# Altium footprint library CrystalsFootprint.PcbLib: 1 footprints
Each footprint in its own frame and in the unit in brackets; x right, y up, seen from the top. Pads: shape width x height; smd on the part's side, far side on the other; paste and mask are expansions set on the pad; w line width, h text height; cw(c..) or ccw(c..) is an arc to the next point about the centre after c.
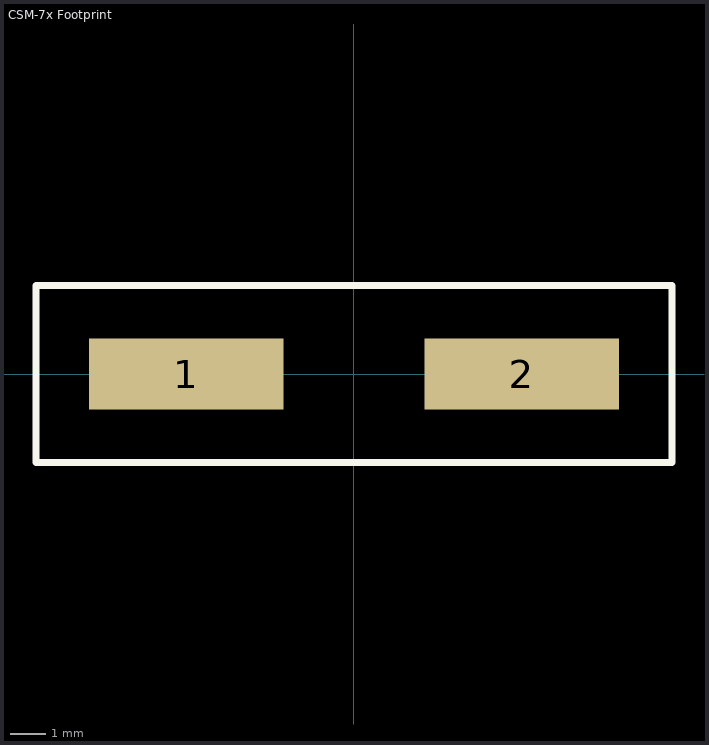
[diagram p0: the footprint, top view; thin cyan lines are the x and y axes]

## CSM-7x Footprint [mm] "for   ECS-080-20-5PX-TR"
height 4.3
pads (2):
  rect 5.5x2 smd: 1(-4.75,0) 2(4.75,0)
Top Overlay:
  lines w0.2: -9,-2.5 -9,0 -9,2.5 9,2.5 9,-2.5 -9,-2.5